# Altium schematic symbol library V2PSU_MONOFASICA_VIPER_ED01R1.SchLib: 34 symbols
Pins are listed as number, name and electrical type; pins without a type are passive.

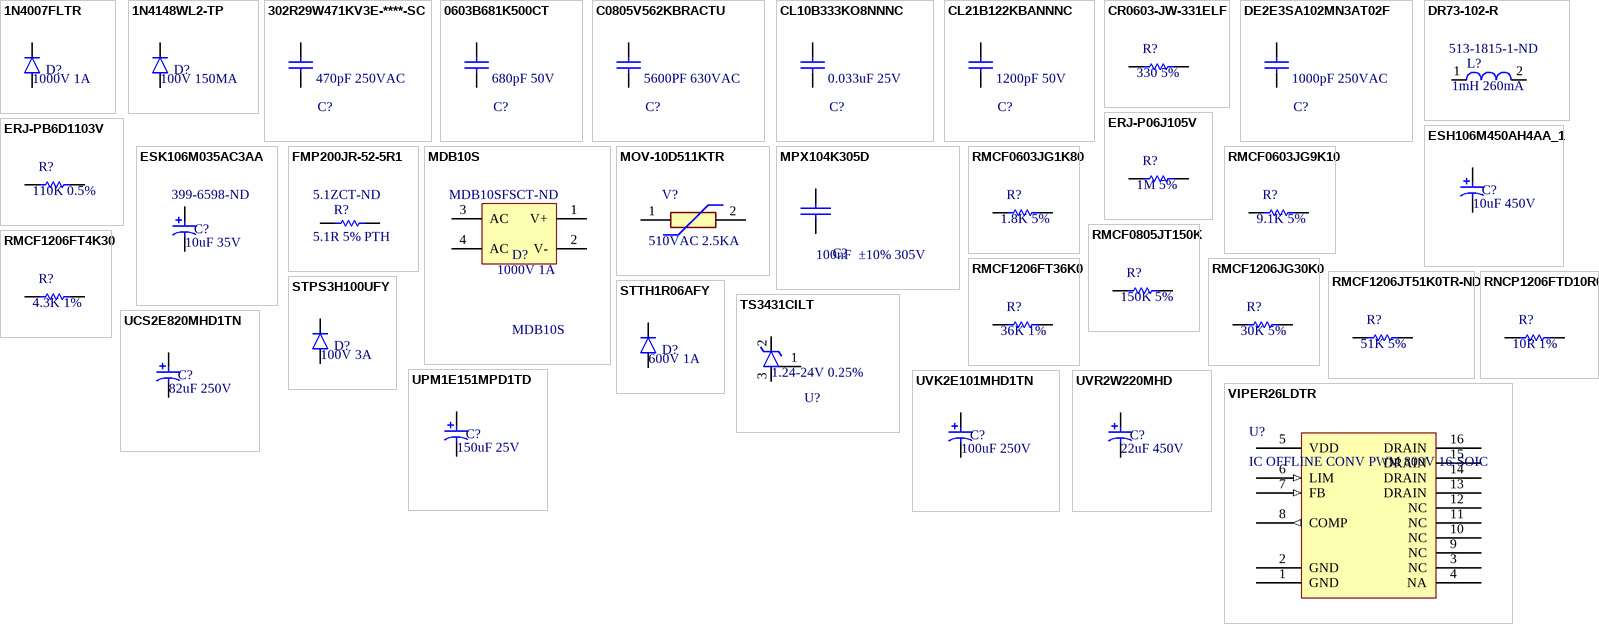
[diagram p0: symbols 1N4007FLTR to VIPER26LDTR]

## 1N4007FLTR
designator D?, comment Valor: 1000V 1A  (hidden comment: DIO STANDARD RECTIFIER 1000V,1A SOD-123)
Manufacturer: ST; Manufacturer Part Number: 1N4007FLTR; Origem: V2PSU_MONOFASICA_ED01r1; Case/Package: SOD-123FL
footprint DIO SOD-123FL
pins: 1 A, 2 K

## 1N4148WL2-TP
designator D?, comment Valor: 100V 150MA  (hidden comment: DIO GP 100V 150MA DFN1006-2)
Manufacturer: Micro Commercial Co; Manufacturer Part Number: 1N4148WL2-TP; Origem: V2PSU_MONOFASICA_ED01r1; Case/Package: DFN1006-2 (SOD882); Supplier 1: Digi-Key; Supplier Part Number 1: 1N4148WL2-TPMSCT-ND
footprint DIO SOD882
pins: 1 A, 2 K

## 302R29W471KV3E-****-SC
designator C?, comment Valor: 470pF 250VAC  (hidden comment: CAP CER 470PF 250VAC X7R 1808)
Manufacturer: Johanson Dielectrics Inc.; Manufacturer Part Number: 302R29W471KV3E-****-SC; Origem: V2PSU_MONOFASICA_ED01r1; Case/Package: 1808
footprint CAP 1808 (CAPACITOR 1808)
pins: 1, 2

## 0603B681K500CT
designator C?, comment Valor: 680pF 50V  (hidden comment: CAP CER 680PF 50V X7R 0603)
Manufacturer: Walsin Technology Corporation; Manufacturer Part Number: 0603B681K500CT; Origem: V2PSU_MONOFASICA_ED01r1; Case/Package: 0603
footprint CAP 0603
pins: 1, 2

## C0805V562KBRACTU
designator C?, comment Valor: 5600PF 630VAC  (hidden comment: CAP CER 5600PF 630V X7R 0805)
Manufacturer: KEMET; Manufacturer Part Number: C0805V562KBRACTU; Origem: V2PSU_MONOFASICA_ED01r1; Case/Package: 0805
footprint CAP 0805 (CAPACITOR 0805)
pins: 1, 2

## CL10B333KO8NNNC
designator C?, comment Valor: 0.033uF 25V  (hidden comment: CAP CER 0.033UF 16V X7R 0603)
Manufacturer: Samsung Electro-Mechanics; Manufacturer Part Number: CL10B333KO8NNNC; Origem: V2PSU_MONOFASICA_ED01r1; Case/Package: 0603
footprint CAP 0603
pins: 1, 2

## CL21B122KBANNNC
designator C?, comment Valor: 1200pF 50V  (hidden comment: CAP CER 1200PF 50V X7R 0805)
Manufacturer: Samsung Electro-Mechanics; Manufacturer Part Number: CL21B122KBANNNC; Origem: V2PSU_MONOFASICA_ED01r1; Case/Package: 0805
footprint CAP 0805 (CAPACITOR 0805)
pins: 1, 2

## CR0603-JW-331ELF
designator R?, comment Valor: 330 5%  (hidden comment: RES SMD 330 OHM 5% 1/10W 0603)
Manufacturer: Bourns Inc.; Manufacturer Part Number: CR0603-JW-331ELF; Origem: V2PSU_MONOFASICA_ED01r1; Case/Package: 0603
footprint RES 0603
pins: 1, 2

## DE2E3SA102MN3AT02F
designator C?, comment Valor: 1000pF 250VAC  (hidden comment: CAP CER 1000PF 250V RAD)
Manufacturer: Murata Electronics; Manufacturer Part Number: DE2E3SA102MN3AT02F; Origem: V2PSU_MONOFASICA_ED01r1; Case/Package: Radial
footprint CAP CER 6Dx7.5Fx4Tmm
pins: 1, 2

## DR73-102-R
designator L?, comment Valor: 1mH 260mA  Supplier Part Number 1: 513-1815-1-ND  (hidden comment: FIXED IND 1MH 260MA 4.34 OHM SMD)
Manufacturer: Eaton - Electronics Division; Manufacturer Part Number: DR73-102-R; Origem: V2PSU_MONOFASICA_ED01r1; Case/Package: SMD; Supplier 1: Digi-Key
footprint IND dr73
pins: 1, 2

## ERJ-P06J105V
designator R?, comment Valor: 1M 5%  (hidden comment: RES SMD 1M OHM 5% 1/2W 0805)
Manufacturer: Panasonic Electronic Components; Manufacturer Part Number: ERJ-P06J105V; Origem: V2PSU_MONOFASICA_ED01r1; Case/Package: 0805
footprint RES 0805 (RESISTOR 0805)
pins: 1, 2

## ERJ-PB6D1103V
designator R?, comment Valor: 110K 0.5%  (hidden comment: RES SMD 110K OHM 0.5% 1/4W 0805)
Manufacturer: Panasonic Electronic Components; Manufacturer Part Number: ERJ-PB6D1103V; Origem: V2PSU_MONOFASICA_ED01r1; Case/Package: 0805
footprint RES 0805 (RESISTOR 0805)
pins: 1, 2

## ESH106M450AH4AA_1
designator C?, comment Valor: 10uF 450V  (hidden comment: CAP ALUM 10UF 20% 450V THRU HOLE)
Manufacturer: KEMET; Manufacturer Part Number: ESH106M450AH4AA; Origem: V2PSU_MONOFASICA_ED01r1; Case/Package: Radial; Supplier 1: Digi-Key; Supplier Part Number 1: 399-15671-ND
footprint CAP POL 10Dx5x20mm
pins: 1, 2

## ESK106M035AC3AA
designator C?, comment Valor: 10uF 35V  Supplier Part Number 1: 399-6598-ND  (hidden comment: CAP ALUM 10UF 20% 35V RADIAL)
Manufacturer: KEMET; Manufacturer Part Number: ESK106M035AC3AA; Origem: V2PSU_MONOFASICA_ED01r1; Case/Package: Radial; Supplier 1: Digi-Key
footprint CAP POL 5Dx2x11mm
pins: 1, 2

## FMP200JR-52-5R1
designator R?, comment Valor: 5.1R 5% PTH  Supplier Part Number 1: 5.1ZCT-ND  (hidden comment: RES PTH 5.1 OHM 2W 5% AXIAL)
Manufacturer: Yageo; Manufacturer Part Number: FMP200JR-52-5R1; Origem: V2PSU_MONOFASICA_ED01r1; Case/Package: Axial; Supplier 1: Digi-Key
footprint RES PTH VERTICAL D1mmx5.08mm
pins: 1, 2

## MDB10S
designator D?  Valor: 1000V 1A  Supplier Part Number 1: MDB10SFSCT-ND
DIO Bridge Rectifiers 1A Bridge Rectifier; Manufacturer: ON SEMI; Origem: GTZ1050_ED1R1; Case/Package: 4-MicroDIP; Manufacturer Part Number: MDB10S; Supplier 1: Digi-Key
footprint DIO 4-MicroDIP
pins: 1 V+ (power), 2 V- (power), 3 AC (power), 4 AC (power)

## MOV-10D511KTR
designator V?, comment Valor: 510VAC 2.5KA  (hidden comment: VAR 510V 2.5KA DISC 10MM)
Manufacturer: Bourns Inc; Manufacturer Part Number: MOV-10D511KTR; Origem: V2PSU_MONOFASICA_ED01r1; Case/Package: PTH Radial; Supplier 1: Digi-Key; Supplier Part Number 1: MOV-10D511KTRCT-ND
footprint VAR MOV-07D
pins: 1, 2

## MPX104K305D
designator C?, comment Valor: 100nF  ±10% 305V  (hidden comment: CAP FILM 0.1UF 10% 305VAC RAD)
Manufacturer: Illinois Capacitor; Manufacturer Part Number: MPX104K305D; Origem: V2PSU_MONOFASICA_ED01r1; Case/Package: Radial; Supplier 1: Mouser; Supplier Part Number 1: 598-MPX104K305D
footprint CAP FILM 13Lx12Hx6Tmm
pins: 1, 2

## RMCF0603JG1K80
designator R?, comment Valor: 1.8K 5%  (hidden comment: RES 1.8K OHM 5% 1/10W 0603)
RES 1K8 OHM 5% 1/10W 0603; Manufacturer: Stackpole Electronics Inc; Manufacturer Part Number: RMCF0603JG1K80; Origem: V2PSU_MONOFASICA_ED01r1; Case/Package: 0603
footprint RES 0603
pins: 1, 2

## RMCF0603JG9K10
designator R?, comment Valor: 9.1K 5%  (hidden comment: RES 9.1K OHM 5% 1/10W 0603)
RES 9K1 OHM 5% 1/10W 0603; Manufacturer: Stackpole Electronics Inc; Manufacturer Part Number: RMCF0603JG9K10; Origem: V2PSU_MONOFASICA_ED01r1; Case/Package: 0603
footprint RES 0603
pins: 1, 2

## RMCF0805JT150K
designator R?, comment Valor: 150K 5%  (hidden comment: RES 150K OHM 5% 1/8W 0805)
Manufacturer: Stackpole Electronics Inc; Manufacturer Part Number: RMCF0805JT150K; Origem: V2PSU_MONOFASICA_ED01r1; Case/Package: 0805
footprint RES 0805 (RESISTOR 0805)
pins: 1, 2

## RMCF1206FT4K30
designator R?, comment Valor: 4.3K 1%  (hidden comment: RES 4.3K OHM 1% 1/4W 1206)
RES 4K3 OHM 1% 1/4W 1206; Manufacturer: Stackpole Electronics Inc; Manufacturer Part Number: RMCF1206FT4K30; Origem: V2PSU_MONOFASICA_ED01r1; Case/Package: 1206
footprint RES 1206
pins: 1, 2

## RMCF1206FT36K0
designator R?, comment Valor: 36K 1%  (hidden comment: RES 36K OHM 1% 1/4W 1206)
Manufacturer: Stackpole Electronics Inc; Manufacturer Part Number: RMCF1206FT36K0; Origem: V2PSU_MONOFASICA_ED01r1; Case/Package: 1206
footprint RES 1206
pins: 1, 2

## RMCF1206JG30K0
designator R?, comment Valor: 30K 5%  (hidden comment: RES 30K OHM 5% 1/4W 1206)
Manufacturer: Stackpole Electronics Inc; Manufacturer Part Number: RMCF1206JG30K0; Origem: V2PSU_MONOFASICA_ED01r1; Case/Package: 1206
footprint RES 1206
pins: 1, 2

## RMCF1206JT51K0TR-ND
designator R?, comment Valor: 51K 5%  (hidden comment: RES 51K OHM 5% 1/4W 1206)
Manufacturer: Stackpole Electronics Inc; Manufacturer Part Number: RMCF1206JT51K0TR-ND; Origem: V2PSU_MONOFASICA_ED01r1; Case/Package: 1206
footprint RES 1206
pins: 1, 2

## RNCP1206FTD10R0
designator R?, comment Valor: 10R 1%  (hidden comment: RES 10 OHM 1% 1/2W 1206)
Manufacturer: Stackpole Electronics Inc; Manufacturer Part Number: RNCP1206FTD10R0; Origem: V2PSU_MONOFASICA_ED01r1; Case/Package: 1206
footprint RES 1206
pins: 1, 2

## STPS3H100UFY
designator D?, comment Valor: 100V 3A  (hidden comment: DIODE SCHOTTKY 100V 3A SMBFLAT)
Manufacturer: ST; Manufacturer Part Number: STPS3H100UFY; Origem: V2PSU_MONOFASICA_ED01r1; Case/Package: DO-221AA
footprint DIO DO-221AA
pins: 1 A, 2 K

## STTH1R06AFY
designator D?, comment Valor: 600V 1A  (hidden comment: DIO 600 V, 1 A SOD128FLAT)
Manufacturer: ST; Manufacturer Part Number: STTH1R06AFY; Origem: V2PSU_MONOFASICA_ED01r1; Case/Package: DO218Flat
footprint DIO DO218Flat
pins: 1 A, 2 K

## TS3431CILT
designator U?, comment Valor: 1.24-24V 0.25%  (hidden comment: IC VREF SHUNT 24V 0.25% SOT23-3)
Manufacturer: STMicroelectronics; Manufacturer Part Number: TS432AILT; Origem: GTZ1050_ED1R1; Case/Package: SOT-23-3
footprint IC SOT23-3
pins: 1 REF (power), 2 K, 3 A

## UCS2E820MHD1TN
designator C?, comment Valor: 82uF 250V  (hidden comment: CAP ALUM 82UF 20% 250V RADIAL)
Manufacturer: Nichicon; Manufacturer Part Number: UCS2E820MHD1TN; Origem: V2PSU_MONOFASICA_ED01r1; Case/Package: Radial
footprint CAP POL 16Dx7.5x22mm
pins: 1, 2

## UPM1E151MPD1TD
designator C?, comment Valor: 150uF 25V  (hidden comment: CAP ALUM 150UF 20% 25V RADIAL)
Manufacturer: KEMET; Manufacturer Part Number: UPM1E151MPD1TD; Origem: V2PSU_MONOFASICA_ED01r1; Case/Package: Radial
footprint CAP POL 8Dx3.5x13mm
pins: 1, 2

## UVK2E101MHD1TN
designator C?, comment Valor: 100uF 250V  (hidden comment: CAP ALUM 100UF 20% 250V RADIAL)
Manufacturer: Nichicon; Manufacturer Part Number: UVK2E101MHD1TN; Origem: V2PSU_MONOFASICA_ED01r1; Case/Package: Radial
footprint CAP POL 16Dx7.5x27mm
pins: 1, 2

## UVR2W220MHD
designator C?, comment Valor: 22uF 450V  (hidden comment: CAP ALUM 22UF 20% 450V RADIAL)
Manufacturer: Nichicon; Manufacturer Part Number: UVR2W220MHD; Origem: V2PSU_MONOFASICA_ED01r1; Case/Package: Radial
footprint CAP POL 16Dx7.5x27mm
pins: 1, 2

## VIPER26LDTR
designator U?, comment IC OFFLINE CONV PWM 800V 16-SOIC
Manufacturer: STMicroeletronics; Manufacturer Part Number: VIPER26LDTR; Origem: V2PSU_MONOFASICA; ComponentLink1URL: https://datasheet.ciiva.com/22800/1738994-22800944.pdf?src-supplier=Farnell; ComponentLink1Description: https://datasheet.ciiva.com/22800/1738994-22800944.pdf?src-supplier=Farnell; ComponentLink2URL: https://datasheet.ciiva.com/23917/1700304-23917776.pdf?src-supplier=Newark; ComponentLink2Description: https://datasheet.ciiva.com/23917/1700304-23917776.pdf?src-supplier=Newark; ComponentLink3URL: https://datasheet.ciiva.com/41457/001186091-da-01-en-ic-offline-conv-viper26ldtr-soic-16-stm-41457360.pdf?src-supplier=Conrad; ComponentLink3Description: https://datasheet.ciiva.com/41457/001186091-da-01-en-ic-offline-conv-viper26ldtr-soic-16-stm-41457360.pdf?src-supplier=Conrad; ComponentLink4URL: https://datasheet.ciiva.com/1930/cd00279018-1930066.pdf?src-supplier=Digi-Key; ComponentLink4Description: https://datasheet.ciiva.com/1930/cd00279018-1930066.pdf?src-supplier=Digi-Key; ComponentLink5URL: https://datasheet.ciiva.com/17564/cd00279018-17564362.pdf?src-supplier=Avnet+Europe; ComponentLink5Description: https://datasheet.ciiva.com/17564/cd00279018-17564362.pdf?src-supplier=Avnet+Europe; ComponentLink6URL: https://datasheet.ciiva.com/1930/cd00279018-1930067.pdf?src-supplier=Digi-Key; ComponentLink6Description: https://datasheet.ciiva.com/1930/cd00279018-1930067.pdf?src-supplier=Digi-Key; ComponentLink7URL: https://datasheet.ciiva.com/1930/cd00279018-1930068.pdf?src-supplier=Digi-Key; ComponentLink7Description: https://datasheet.ciiva.com/1930/cd00279018-1930068.pdf?src-supplier=Digi-Key; Valor: VIPER26LDTR
footprint IC 16-SOIC
pins: 1 GND (power), 2 GND (power), 3 NC, 4 NA, 5 VDD (power), 6 LIM (in), 7 FB (in), 8 COMP (out), 9 NC, 10 NC, 11 NC, 12 NC, 13 DRAIN (power), 14 DRAIN (power), 15 DRAIN (power), 16 DRAIN (power)